# Altium schematic symbol library con-wago-500.SCHLIB: 11 symbols
Pins are listed as number, name and electrical type; pins without a type are passive.

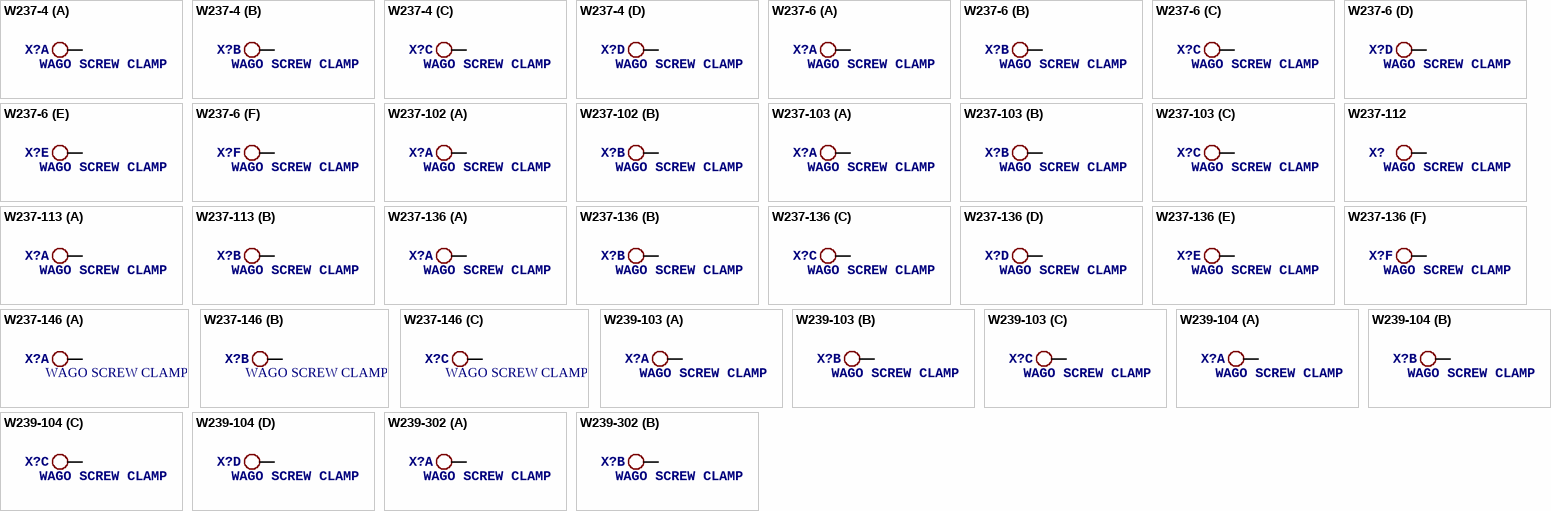
[diagram p0: symbols W237-4 to W239-302]

## W237-4
designator X?, comment WAGO SCREW CLAMP
OC_FARNELL: unknown; OC_NEWARK: unknown
footprint W237-4
part A pins: 1 KL
part B pins: 2 KL
part C pins: 3 KL
part D pins: 4 KL

## W237-6
designator X?, comment WAGO SCREW CLAMP
OC_FARNELL: unknown; OC_NEWARK: unknown
footprint W237-6
part A pins: 1 KL
part B pins: 2 KL
part C pins: 3 KL
part D pins: 4 KL
part E pins: 5 KL
part F pins: 6 KL

## W237-102
designator X?, comment WAGO SCREW CLAMP
MPN: 237-102; OC_FARNELL: unknown; OC_NEWARK: 70K9898
footprint W237-102
part A pins: 1 KL
part B pins: 2 KL

## W237-103
designator X?, comment WAGO SCREW CLAMP
MPN: 237-103; OC_FARNELL: unknown; OC_NEWARK: 18M7116
footprint W237-103
part A pins: 1 KL
part B pins: 2 KL
part C pins: 3 KL

## W237-112
designator X?, comment WAGO SCREW CLAMP
MPN: 237-112; OC_FARNELL: unknown; OC_NEWARK: 76R2974
footprint W237-112
pins: 1 KL

## W237-113
designator X?, comment WAGO SCREW CLAMP
OC_FARNELL: unknown; OC_NEWARK: unknown
footprint W237-113
part A pins: 1 KL
part B pins: 2 KL

## W237-136
designator X?, comment WAGO SCREW CLAMP
MPN: 237-136; OC_FARNELL: unknown; OC_NEWARK: 84K9151
footprint W237-136
part A pins: 1 KL
part B pins: 2 KL
part C pins: 3 KL
part D pins: 4 KL
part E pins: 5 KL
part F pins: 6 KL

## W237-146
designator X?, comment WAGO SCREW CLAMP
MPN: 237-146; OC_FARNELL: unknown; OC_NEWARK: 76R2975
footprint W237-146
part A pins: 1 KL
part B pins: 2 KL
part C pins: 3 KL

## W239-103
designator X?, comment WAGO SCREW CLAMP
MPN: 239-103; OC_FARNELL: unknown; OC_NEWARK: 33M7170
footprint W239-103
part A pins: 1 KL
part B pins: 2 KL
part C pins: 3 KL

## W239-104
designator X?, comment WAGO SCREW CLAMP
OC_FARNELL: unknown; OC_NEWARK: unknown
footprint W239-104
part A pins: 1 KL
part B pins: 2 KL
part C pins: 3 KL
part D pins: 4 KL

## W239-302
designator X?, comment WAGO SCREW CLAMP
OC_FARNELL: unknown; OC_NEWARK: unknown
footprint W239-302
part A pins: 1 KL
part B pins: 2 KL